# EAGLE library part 24FC1025 (library bnahill)
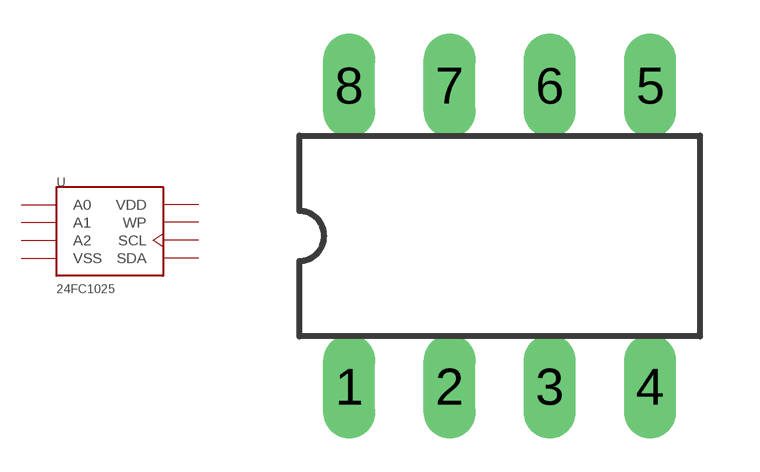
[diagram p9: symbol with the pads of DIL8; footprint DIL8]

Designator prefix -

## 24FC1025  [DIL8]
1  A0
2  A1
3  A2
4  VSS  pwr
5  SDA
6  SCL
7  WP
8  VDD  pwr

## Footprint DIL8 (pad centres in mm)
drill 0.813 long: 1 -3.81,-3.81; 2 -1.27,-3.81; 3 1.27,-3.81; 4 3.81,-3.81; 5 3.81,3.81; 6 1.27,3.81; 7 -1.27,3.81; 8 -3.81,3.81